# Altium footprint library 5MS1S102AM6QES.PcbLib: 1 footprints
Each footprint in its own frame and in the unit in brackets; x right, y up, seen from the top. Pads: shape width x height; smd on the part's side, far side on the other; paste and mask are expansions set on the pad; w line width, h text height; cw(c..) or ccw(c..) is an arc to the next point about the centre after c.
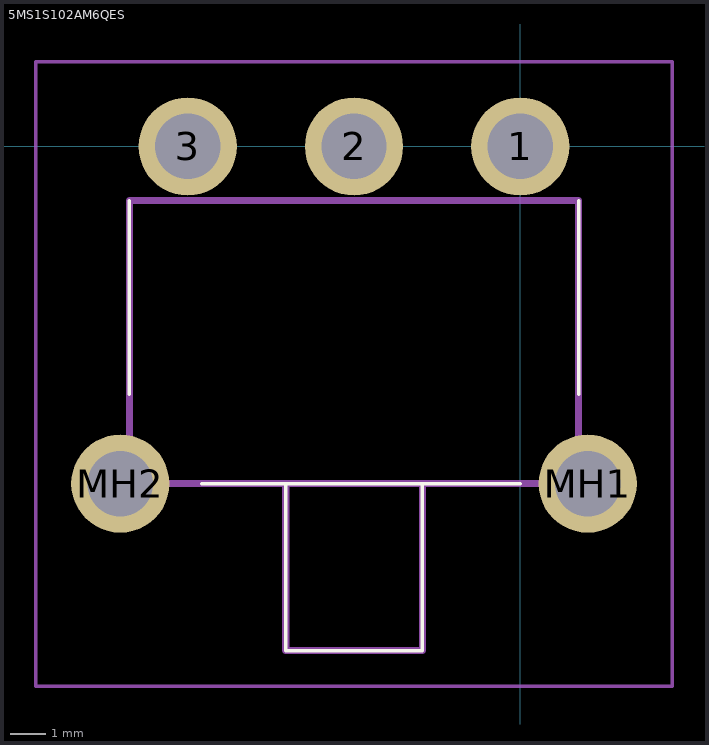
[diagram p0: the footprint, top view; thin cyan lines are the x and y axes]

## 5MS1S102AM6QES [mm]
pads (5):
  round 2.775 hole 1.85: 1(0,0) 2(-4.7,0) 3(-9.4,0) MH1(1.905,-9.53) MH2(-11.305,-9.53)
Top Overlay:
  lines w0.1: -11.05,-7 -11.05,-1.53 ; -9,-9.53 0,-9.53 ; -6.63,-9.53 -6.63,-14.25 -2.77,-14.25 -2.77,-9.53 ; 1.65,-7 1.65,-1.53
Mechanical 15:
  lines w0.2: -6.63,-9.53 -6.63,-14.25 -2.77,-14.25 -2.77,-9.53 ; -11.05,-9.53 1.65,-9.53 1.65,-1.53 -11.05,-1.53 -11.05,-9.53
Mechanical 20:
  lines w0.1: -13.693,-15.25 4.292,-15.25 4.292,2.388 -13.693,2.388 -13.693,-15.25